# Altium footprint library UZR0J101MCL1GB.PcbLib: 1 footprints
Each footprint in its own frame and in the unit in brackets; x right, y up, seen from the top. Pads: shape width x height; smd on the part's side, far side on the other; paste and mask are expansions set on the pad; w line width, h text height; cw(c..) or ccw(c..) is an arc to the next point about the centre after c.
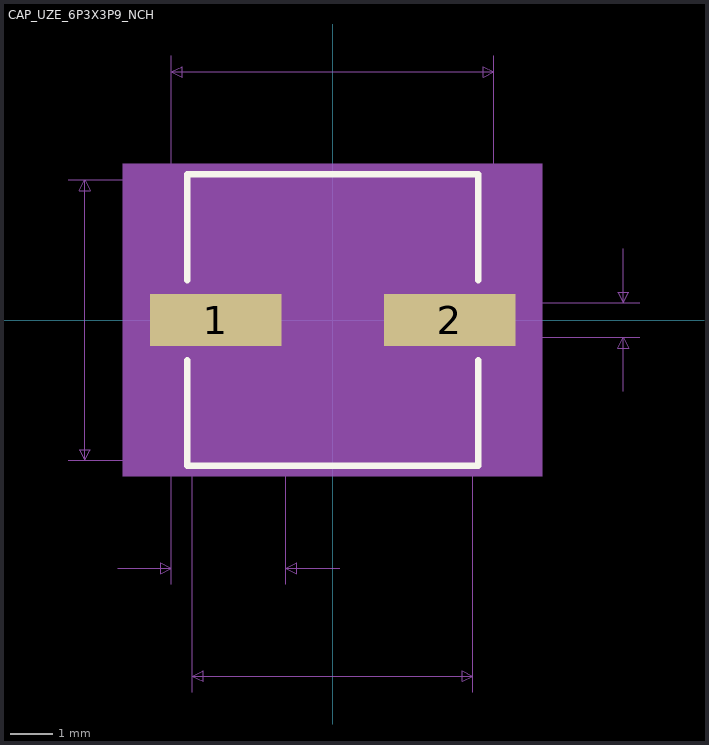
[diagram p0: the footprint, top view; thin cyan lines are the x and y axes]

## CAP_UZE_6P3X3P9_NCH [mil]
pads (2):
  rect 122x48 smd paste+0 mask+0: 1(-108.5,0) 2(108.5,0)
Top Overlay:
  lines w6: -135,-37.1 -135,-135 135,-135 135,-37.1 ; -135,37.1 -135,135 135,135 135,37.1
Mechanical 5:
  region: 194.5,-145 -194.5,-145 -194.5,145 194.5,145
Mechanical 7:
  lines w1: -245,-130 -130,-130 -130,-345 ; -245,130 -130,130 ; -199.5,-230 -149.5,-230 ; -149.5,-245 -149.5,-34 ; -149.5,34 -149.5,245 ; -43.5,-245 -43.5,-14 ; 6.5,-230 -43.5,-230 ; 130,-345 130,-130 ; 149.5,34 149.5,245 ; 179.5,-16 284.5,-16 ; 179.5,16 284.5,16 ; 269.5,-66 269.5,-16 ; 269.5,66 269.5,16 ; -230,-130 -230,130 ; -230,-130 -235,-120 -225,-120 -230,-130 ; -230,130 -235,120 -225,120 -230,130 ; -149.5,-230 -159.5,-225 -159.5,-235 -149.5,-230 ; -149.5,230 149.5,230 ; -149.5,230 -139.5,235 -139.5,225 -149.5,230 ; -130,-330 130,-330 ; -130,-330 -120,-325 -120,-335 -130,-330 ; -43.5,-230 -33.5,-225 -33.5,-235 -43.5,-230 ; 130,-330 120,-325 120,-335 130,-330 ; 149.5,230 139.5,235 139.5,225 149.5,230 ; 269.5,-16 264.5,-26 274.5,-26 269.5,-16 ; 269.5,16 264.5,26 274.5,26 269.5,16
  text "Default Padstyle: RX122Y48D0T" at -362.5,-451 h50
  text "Alternate 1 Padstyle: OX60Y90D30P" at -412.5,-551 h50
  text "Alternate 2 Padstyle: OX90Y60D30P" at -412.5,-651 h50
  text "0.032in/0.813mm" at 289.5,-12.5 h25
  text "0.299in/7.595mm" at -93.75,250 h25
  text "0.26in/6.604mm" at -425,-12.5 h25
  text "0.106in/2.692mm" at -190.25,-275 h25
  text "0.26in/6.604mm" at -87.5,-375 h25
Mechanical 13:
  lines w1: -130,-65 -65,-130 ; -130,65 -65,130 ; -130,-130 130,-130 130,130 -130,130 -130,-130
Mechanical 15:
  region: -140,-34 -179.5,-34 -179.5,34 -140,34 -140,140 140,140 140,34 179.5,34 179.5,-34 140,-34 140,-140 -140,-140
  lines w6: -179.5,-34 -179.5,34 -140,34 -140,140 140,140 140,34 179.5,34 179.5,-34 140,-34 140,-140 -140,-140 -140,-34 -179.5,-34
3D body "CAP_UZE_6P3X3P9_NCH.step": height 158.11, standoff 0, extent -149.49,-130 149.49,130